# Altium schematic symbol library SCH - DRIVER - LED - TI TLC5911_PZP_100_A.SchLib: 1 symbol
Pins are listed as number, name and electrical type; pins without a type are passive.

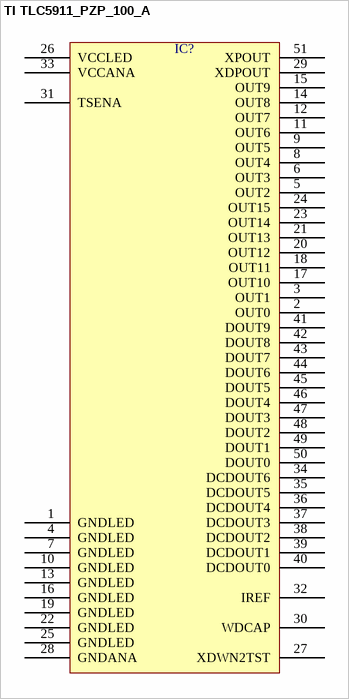
[diagram p0: symbol TI TLC5911_PZP_100_A]

## TI TLC5911_PZP_100_A
designator IC?  (value not drawn)
pins: 1 GNDLED, 2 OUT0, 3 OUT1, 4 GNDLED, 5 OUT2, 6 OUT3, 7 GNDLED, 8 OUT4, 9 OUT5, 10 GNDLED, 11 OUT6, 12 OUT7, 13 GNDLED, 14 OUT8, 15 OUT9, 16 GNDLED, 17 OUT10, 18 OUT11, 19 GNDLED, 20 OUT12, 21 OUT13, 22 GNDLED, 23 OUT14, 24 OUT15, 25 GNDLED, 26 VCCLED, 27 XDWN2TST, 28 GNDANA, 29 XDPOUT, 30 WDCAP, 31 TSENA, 32 IREF, 33 VCCANA, 34 DCDOUT6, 35 DCDOUT5, 36 DCDOUT4, 37 DCDOUT3, 38 DCDOUT2, 39 DCDOUT1, 40 DCDOUT0, 41 DOUT9, 42 DOUT8, 43 DOUT7, 44 DOUT6, 45 DOUT5, 46 DOUT4, 47 DOUT3, 48 DOUT2, 49 DOUT1, 50 DOUT0, 51 XPOUT